# Altium integrated library Arduino Shield.IntLib: 4 symbols
Pins are listed as number, name and electrical type; pins without a type are passive.

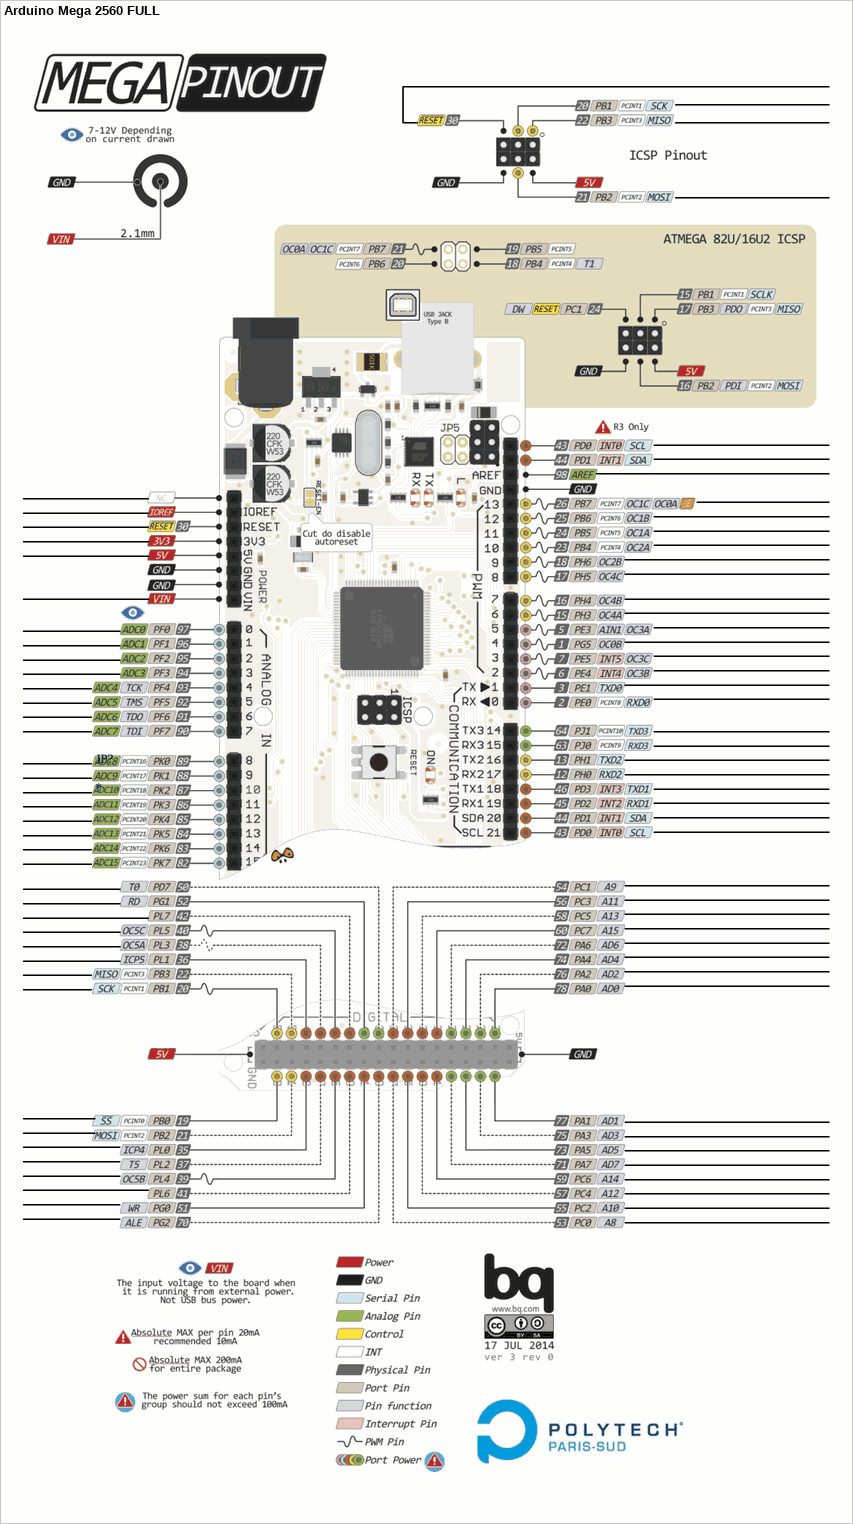
[diagram p0: symbol Arduino Mega 2560 FULL]

## Arduino Mega 2560 FULL
designator JP?
Arduino Mega 2560 Shield
footprint Arduino MEGA FULL
pins: 3V3, 5V1 5V hidden to 5V, 5V2 5V1 hidden to 5V, 5V3 5V hidden to 5V, 5V4 5V hidden to 5V, AREF, GND1 GND hidden to GND, GND2 GND hidden to GND, GND3 GND hidden to GND, GND4 GND hidden to GND, GND5 GND hidden to GND, GND6 GND hidden, IOREF, NC, PA0, PA1, PA2, PA3, PA4, PA5, PA6, PA7, PB0, PB1-0 PB1, PB1-1 PB1, PB2-0 PB2, PB2-1 PB2, PB3-0 PB3, PB3-1 PB3, PB4, PB5, PB6, PB7, PC0, PC1, PC2, PC3, PC4, PC5, PC6, PC7, PD0-0 PD0, PD0-1 PD0, PD1-0 PD1, PD1-1 PD1, PD2, PD3, PD7, PE0, PE1, PE3, PE4, PE5, PF0, PF1, PF2, PF3, PF4, PF5, PF6, PF7, PG0, PG1, PG2, PG5, PH0, PH1, PH3, PH4, PH5, PH6, PJ0, PJ1, PK0, PK1, PK2, PK3, PK4, PK5, PK6, PK7, PL0, PL1, PL2, PL3, PL4, PL5, PL6, PL7, RST-0 RST, RST-1 RST, VIN

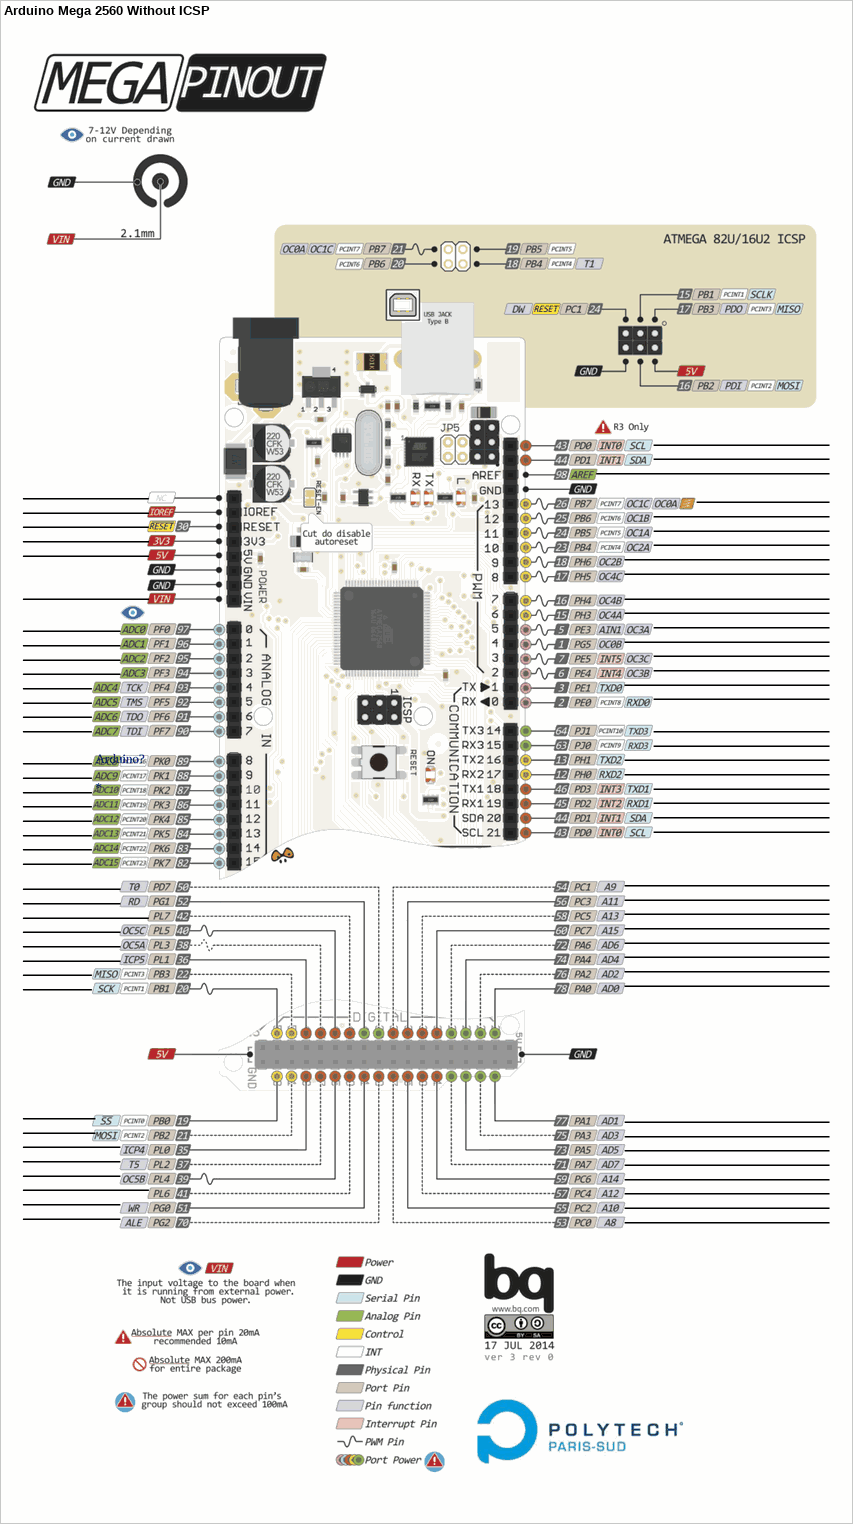
[diagram p1: symbol Arduino Mega 2560 Without ICSP]

## Arduino Mega 2560 Without ICSP
designator Arduino?
Arduino Mega 2560 Shield
footprint Arduino MEGA
pins: 3V3, 5V1 5V hidden to 5V, 5V2 5V1 hidden to 5V, 5V3 5V hidden to 5V, AREF, GND1 GND hidden to GND, GND2 GND hidden to GND, GND3 GND hidden to GND, GND4 GND hidden to GND, GND6 GND hidden, IOREF, NC, PA0, PA1, PA2, PA3, PA4, PA5, PA6, PA7, PB0, PB1-0 PB1, PB2-0 PB2, PB3-0 PB3, PB4, PB5, PB6, PB7, PC0, PC1, PC2, PC3, PC4, PC5, PC6, PC7, PD0-0 PD0, PD0-1 PD0, PD1-0 PD1, PD1-1 PD1, PD2, PD3, PD7, PE0, PE1, PE3, PE4, PE5, PF0, PF1, PF2, PF3, PF4, PF5, PF6, PF7, PG0, PG1, PG2, PG5, PH0, PH1, PH3, PH4, PH5, PH6, PJ0, PJ1, PK0, PK1, PK2, PK3, PK4, PK5, PK6, PK7, PL0, PL1, PL2, PL3, PL4, PL5, PL6, PL7, RST-0 RST, VIN

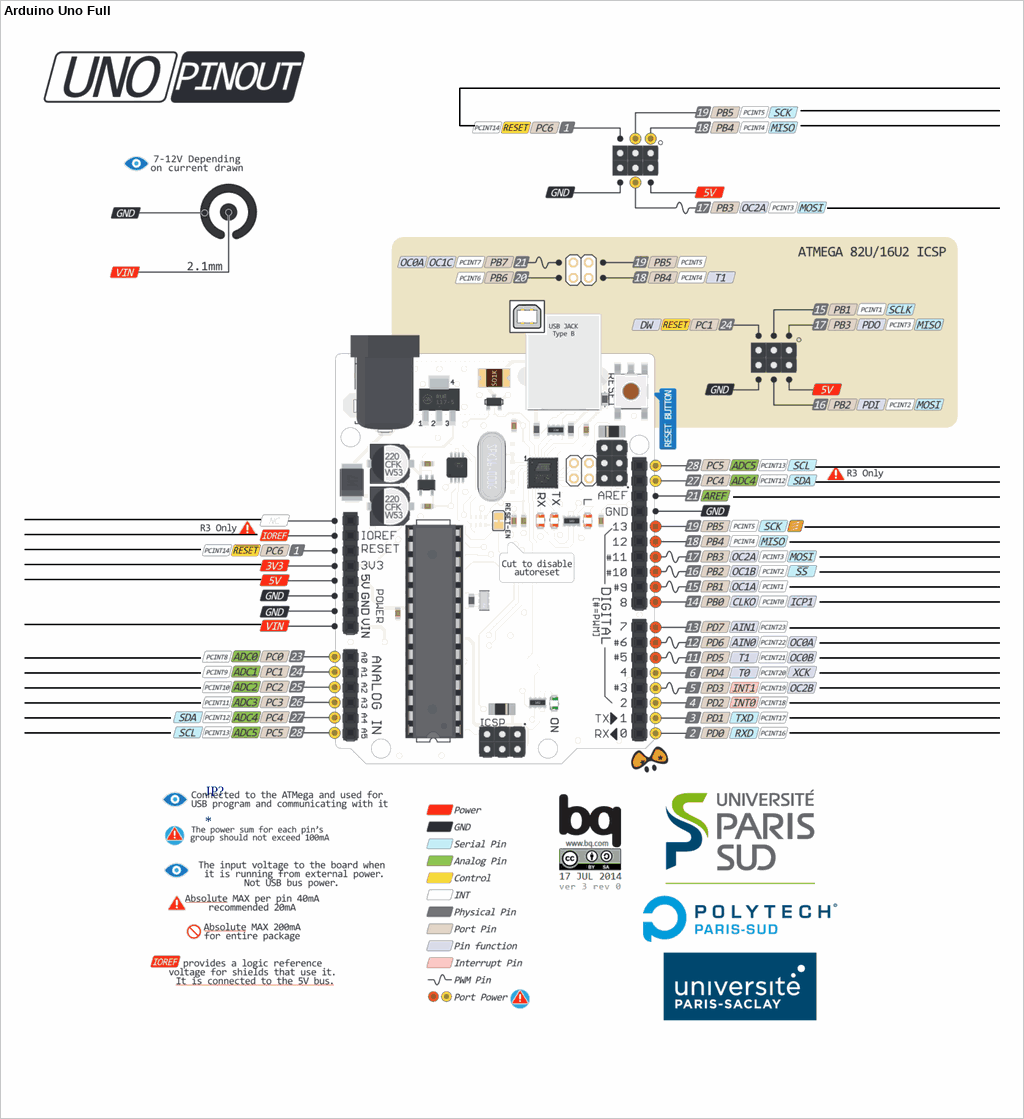
[diagram p2: symbol Arduino Uno Full]

## Arduino Uno Full
designator JP?
Arduino Uno Shield
footprint Arduino UNO FULL
pins: 3V3, 5V1 5V hidden to 5V, 5V4 5V hidden to 5V, AREF, GND1 GND hidden to GND, GND2 GND hidden to GND, GND5 GND hidden to GND, GND6 GND hidden, IOREF, NC, PB0, PB1, PB1-1 PB1, PB2, PB2-1 PB2, PB3, PB3-1 PB3, PB4, PB5, PC0, PC1, PC2, PC3, PC4, PC4-1 PC4, PC5, PC5-1 PC5, PD0, PD1, PD2, PD3, PD4, PD5, PD6, PD7, RST-0 RST, RST-1 RST, VIN

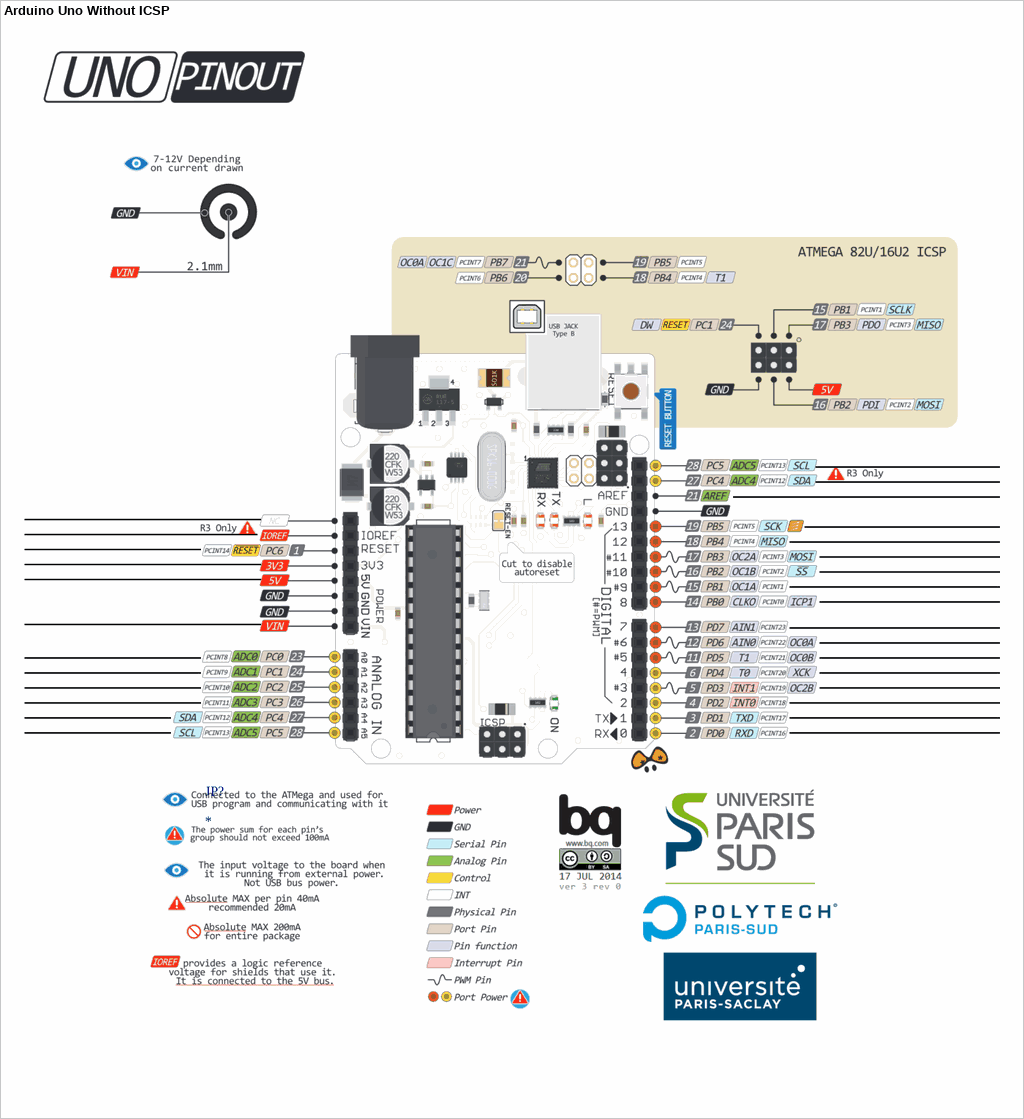
[diagram p3: symbol Arduino Uno Without ICSP]

## Arduino Uno Without ICSP
designator JP?
Arduino Uno Shield
footprint Arduino UNO
pins: 3V3, 5V1 5V hidden to 5V, AREF, GND1 GND hidden to GND, GND2 GND hidden to GND, GND6 GND hidden, IOREF, NC, PB0, PB1, PB2, PB3, PB4, PB5, PC0, PC1, PC2, PC3, PC4, PC4-1 PC4, PC5, PC5-1 PC5, PD0, PD1, PD2, PD3, PD4, PD5, PD6, PD7, RST-0 RST, VIN